# EAGLE library part IDS-SL900A (library RFID)
IDS Microchip SL900A RFID EPC Class 3 Sensory Tag Chip. QFN16
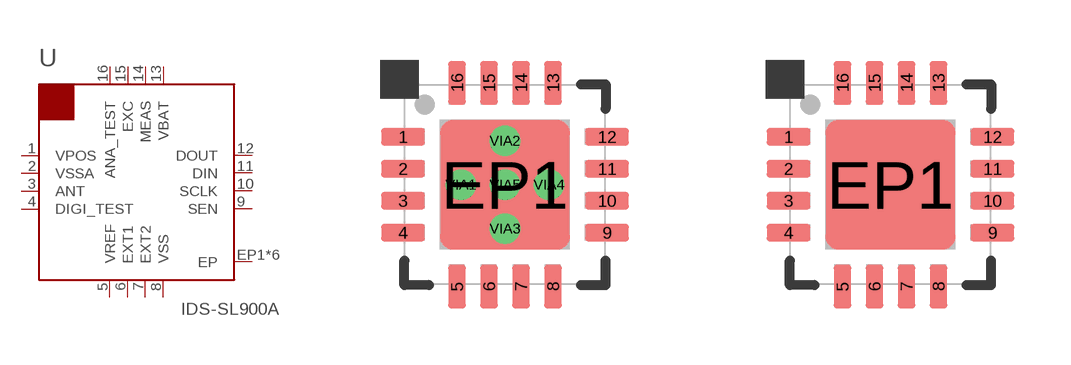
[diagram p1: symbol with the pads of QFN16-LD; footprints QFN16-LD, QFN16-LD-EP]

Designator prefix U

## IDS-SL900A (PARTNO: 01-100407-00)  [QFN16-LD]
1  VPOS  pwr
2  VSSA  pwr
3  ANT  pas
4  DIGI_TEST
5  VREF  pwr
6  EXT1  in
7  EXT2  in
8  VSS  pwr
9  SEN  in
10  SCLK  in
11  DIN  in
12  DOUT  out
13  VBAT  pwr
14  MEAS
15  EXC
16  ANA_TEST
EP1  EP
VIA1  EP
VIA2  EP
VIA3  EP
VIA4  EP
VIA5  EP

## IDS-SL900A-EP (PARTNO: 01-100407-00)  [QFN16-LD-EP]
1  VPOS  pwr
2  VSSA  pwr
3  ANT  pas
4  DIGI_TEST
5  VREF  pwr
6  EXT1  in
7  EXT2  in
8  VSS  pwr
9  SEN  in
10  SCLK  in
11  DIN  in
12  DOUT  out
13  VBAT  pwr
14  MEAS
15  EXC
16  ANA_TEST
EP1  EP

## Footprint QFN16-LD (pad centres in mm)
16-LD QFN (5x5 mm) 3 mil spaced solder mask Changelog: 08/28/15 - Round all pads. Increase stop and paste on exposed padCN 08/21/15 - Add tDocu layer. Reduce pad width by .03mm to reduce bridging.CN 01/21/14 - Expand Cream layer for higher coverage. CN 07/02/13 - Change checkerboard to corners for added coverage and better assembly. CN 01/31/13 - Add GND vias and checkerboard soldermask on belly pad. Add tRestrict to belly pad to keep eagle from making strange shapes. CN 11/28/12 - Restore soldermask between pads
smd 1.1 x 0.45: 1 -2.55,1.2; 2 -2.55,0.4; 3 -2.55,-0.4; 4 -2.55,-1.2; 9 2.55,-1.2; 10 2.55,-0.4; 11 2.55,0.4; 12 2.55,1.2
smd 0.45 x 1.1: 5 -1.2,-2.55; 6 -0.4,-2.55; 7 0.4,-2.55; 8 1.2,-2.55; 13 1.2,2.55; 14 0.4,2.55; 15 -0.4,2.55; 16 -1.2,2.55
smd 3.24 x 3.24: EP1 0,0
drill 0.254: VIA1 -1.1,0; VIA2 0,1.1; VIA3 0,-1.1; VIA4 1.1,0; VIA5 0,0

## Footprint QFN16-LD-EP (pad centres in mm)
QFN16 with fully exposed belly pad Changelog: 08/03/16 - Round all pads 40%. Copy docu, cream, and stop layers from QFN16 Package. CN
smd 1.1 x 0.45: 1 -2.55,1.2; 2 -2.55,0.4; 3 -2.55,-0.4; 4 -2.55,-1.2; 9 2.55,-1.2; 10 2.55,-0.4; 11 2.55,0.4; 12 2.55,1.2
smd 0.45 x 1.1: 5 -1.2,-2.55; 6 -0.4,-2.55; 7 0.4,-2.55; 8 1.2,-2.55; 13 1.2,2.55; 14 0.4,2.55; 15 -0.4,2.55; 16 -1.2,2.55
smd 3.24 x 3.24: EP1 0,0